# Altium schematic symbol library WR-WTB_2.50mm.SchLib: 24 symbols
Pins are listed as number, name and electrical type; pins without a type are passive.

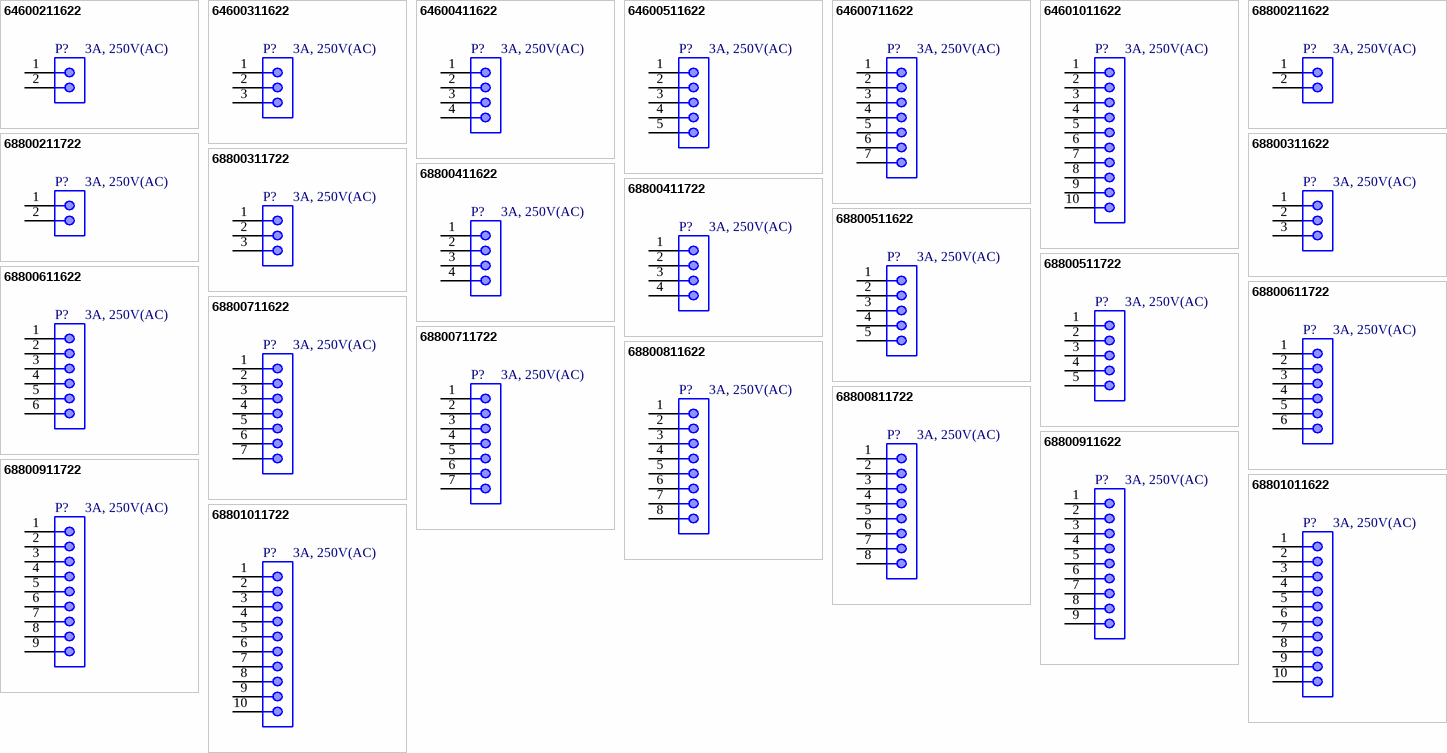
[diagram p0: symbols 64600211622 to 68801011722]

## 64600211622
designator P?, comment 3A, 250V(AC)
WR-WTB Male Vertical Shrouded Header, pitch 2.5mm, 2p; Manufacturer: Wurth Elektronik; Manufacturer Part Number: 64600211622; Pin Number: 2; Contact Resistance: 20mOhm; Withstanding Voltage: 1000VAC; Working Voltage: 250VAC; ComponentLink1Description: Datasheet; ComponentLink1URL: https://www.we-online.com/catalog/datasheet/64600211622.pdf; Pitch: 2.5mm; Packaging: Bag; Gender: Male; Type: Vertical; Rated Current: 3A; Supplier 1 URL: https://www.mouser.vn/ProductDetail/Wurth-Elektronik/64600211622?qs=ulEaXIWI0c%2FQU0TwvpLVZw%3D%3D; Supplier 2 URL: N/A; Supplier 3 URL: N/A; Value: 3A, 250V(AC); LCSC Part #: N/A; Mount: THT; Operating Temperature Max: + 105 C; Operating Temperature Min: - 40 C; Package / Case: 2; Supplier 1: Mouser; Supplier 1 Part Number: 710-64600211622; Supplier 2: Digi-Key; Supplier 2 Part Number: N/A; Supplier 3: thegioiic; Supplier 3 Part Number: N/A
footprint 64600211622
pins: 1, 2

## 64600311622
designator P?, comment 3A, 250V(AC)
WR-WTB Male Vertical Shrouded Header, pitch 2.5mm, 3p; Manufacturer: Wurth Elektronik; Manufacturer Part Number: 64600311622; Pin Number: 3; Contact Resistance: 20mOhm; Withstanding Voltage: 1000VAC; Working Voltage: 250VAC; ComponentLink1Description: Datasheet; ComponentLink1URL: https://www.we-online.com/catalog/datasheet/64600311622.pdf; Pitch: 2.5mm; Packaging: Bag; Gender: Male; Type: Vertical; Rated Current: 3A; Supplier 1 URL: N/A; Supplier 2 URL: N/A; Supplier 3 URL: N/A; Value: 3A, 250V(AC); LCSC Part #: N/A; Mount: THT; Operating Temperature Max: + 105 C; Operating Temperature Min: - 40 C; Package / Case: 3; Supplier 1: Mouser; Supplier 1 Part Number: N/A; Supplier 2: Digi-Key; Supplier 2 Part Number: N/A; Supplier 3: thegioiic; Supplier 3 Part Number: N/A
footprint 64600311622
pins: 1, 2, 3

## 64600411622
designator P?, comment 3A, 250V(AC)
WR-WTB Male Vertical Shrouded Header, pitch 2.5mm, 4p; Manufacturer: Wurth Elektronik; Manufacturer Part Number: 64600411622; Pin Number: 4; Contact Resistance: 20mOhm; Withstanding Voltage: 1000VAC; Working Voltage: 250VAC; ComponentLink1Description: Datasheet; ComponentLink1URL: https://www.we-online.com/catalog/datasheet/64600411622.pdf; Pitch: 2.5mm; Packaging: Bag; Gender: Male; Type: Vertical; Rated Current: 3A; Supplier 1 URL: https://www.mouser.vn/ProductDetail/Wurth-Elektronik/64600411622?qs=ulEaXIWI0c%2FOmlI5H1cDVQ%3D%3D; Supplier 2 URL: N/A; Supplier 3 URL: N/A; Value: 3A, 250V(AC); LCSC Part #: N/A; Mount: THT; Operating Temperature Max: + 105 C; Operating Temperature Min: - 40 C; Package / Case: 4; Supplier 1: Mouser; Supplier 1 Part Number: 710-64600411622; Supplier 2: Digi-Key; Supplier 2 Part Number: N/A; Supplier 3: thegioiic; Supplier 3 Part Number: N/A
footprint 64600411622
pins: 1, 2, 3, 4

## 64600511622
designator P?, comment 3A, 250V(AC)
WR-WTB Male Vertical Shrouded Header, pitch 2.5mm, 5p; Manufacturer: Wurth Elektronik; Manufacturer Part Number: 64600511622; Pin Number: 5; Contact Resistance: 20mOhm; Withstanding Voltage: 1000VAC; Working Voltage: 250VAC; ComponentLink1Description: Datasheet; ComponentLink1URL: https://www.we-online.com/catalog/datasheet/64600511622.pdf; Pitch: 2.5mm; Packaging: Bag; Gender: Male; Type: Vertical; Rated Current: 3A; Supplier 1 URL: N/A; Supplier 2 URL: N/A; Supplier 3 URL: N/A; Value: 3A, 250V(AC); LCSC Part #: N/A; Mount: THT; Operating Temperature Max: + 105 C; Operating Temperature Min: - 40 C; Package / Case: 5; Supplier 1: Mouser; Supplier 1 Part Number: N/A; Supplier 2: Digi-Key; Supplier 2 Part Number: N/A; Supplier 3: thegioiic; Supplier 3 Part Number: N/A
footprint 64600511622
pins: 1, 2, 3, 4, 5

## 64600711622
designator P?, comment 3A, 250V(AC)
WR-WTB Male Vertical Shrouded Header, pitch 2.5mm, 7p; Manufacturer: Wurth Elektronik; Manufacturer Part Number: 64600711622; Pin Number: 7; Contact Resistance: 20mOhm; Withstanding Voltage: 1000VAC; Working Voltage: 250VAC; ComponentLink1Description: Datasheet; ComponentLink1URL: https://www.we-online.com/catalog/datasheet/64600711622.pdf; Pitch: 2.5mm; Packaging: Bag; Gender: Male; Type: Vertical; Rated Current: 3A; Supplier 1 URL: https://www.mouser.vn/ProductDetail/Wurth-Elektronik/64600711622?qs=ylEgnKlAG2aCoZ%2FuUXn57g%3D%3D; Supplier 2 URL: N/A; Supplier 3 URL: N/A; Value: 3A, 250V(AC); LCSC Part #: N/A; Mount: THT; Operating Temperature Max: + 105 C; Operating Temperature Min: - 40 C; Package / Case: 7; Supplier 1: Mouser; Supplier 1 Part Number: 710-64600711622; Supplier 2: Digi-Key; Supplier 2 Part Number: N/A; Supplier 3: thegioiic; Supplier 3 Part Number: N/A
footprint 64600711622
pins: 1, 2, 3, 4, 5, 6, 7

## 64601011622
designator P?, comment 3A, 250V(AC)
WR-WTB Male Vertical Shrouded Header, pitch 2.5mm, 10p; Manufacturer: Wurth Elektronik; Manufacturer Part Number: 64601011622; Pin Number: 10; Contact Resistance: 20mOhm; Withstanding Voltage: 1000VAC; Working Voltage: 250VAC; ComponentLink1Description: Datasheet; ComponentLink1URL: https://www.we-online.com/catalog/datasheet/64601011622.pdf; Pitch: 2.5mm; Packaging: Bag; Gender: Male; Type: Vertical; Rated Current: 3A; Supplier 1 URL: N/A; Supplier 2 URL: N/A; Supplier 3 URL: N/A; Value: 3A, 250V(AC); LCSC Part #: N/A; Mount: THT; Operating Temperature Max: + 105 C; Operating Temperature Min: - 40 C; Package / Case: 10; Supplier 1: Mouser; Supplier 1 Part Number: N/A; Supplier 2: Digi-Key; Supplier 2 Part Number: N/A; Supplier 3: thegioiic; Supplier 3 Part Number: N/A
footprint 64601011622
pins: 1, 2, 3, 4, 5, 6, 7, 8, 9, 10

## 68800211622
designator P?, comment 3A, 250V(AC)
WR-WTB “J” Type THT Vertical Male Shrouded Header, pitch 2.5mm, 2p; Manufacturer: Wurth Elektronik; Manufacturer Part Number: 68800211622; Pin Number: 2; Contact Resistance: 20mOhm; Withstanding Voltage: 800VAC; Working Voltage: 250VAC; ComponentLink1Description: Datasheet; ComponentLink1URL: https://www.we-online.com/catalog/datasheet/68800211622.pdf; Pitch: 2.5mm; Packaging: Bag; Gender: Male; Type: Vertical; Rated Current: 3A; Supplier 1 URL: https://www.mouser.vn/ProductDetail/Wurth-Elektronik/68800211622?qs=W0yvOO0ixfFEaDSIrO93qQ%3D%3D; Supplier 2 URL: N/A; Supplier 3 URL: N/A; Value: 3A, 250V(AC); LCSC Part #: N/A; Mount: THT; Operating Temperature Max: + 85 C; Operating Temperature Min: - 25 C; Package / Case: 2; Supplier 1: Mouser; Supplier 1 Part Number: 710-68800211622; Supplier 2: Digi-Key; Supplier 2 Part Number: N/A; Supplier 3: thegioiic; Supplier 3 Part Number: N/A
footprint 68800211622
pins: 1, 2

## 68800211722
designator P?, comment 3A, 250V(AC)
WR-WTB “J” Type THT Male Horizontal Shrouded Header, pitch 2.5mm, 2p; Manufacturer: Wurth Elektronik; Manufacturer Part Number: 68800211722; Pin Number: 2; Contact Resistance: 20mOhm; Withstanding Voltage: 800VAC; Working Voltage: 250VAC; ComponentLink1Description: Datasheet; ComponentLink1URL: https://www.we-online.com/catalog/datasheet/68800211722.pdf; Pitch: 2.5mm; Packaging: Bag; Gender: Male; Type: Horizontal; Rated Current: 3A; Supplier 1 URL: N/A; Supplier 2 URL: N/A; Supplier 3 URL: N/A; Value: 3A, 250V(AC); LCSC Part #: N/A; Mount: THT; Operating Temperature Max: + 85 C; Operating Temperature Min: - 25 C; Package / Case: 2; Supplier 1: Mouser; Supplier 1 Part Number: N/A; Supplier 2: Digi-Key; Supplier 2 Part Number: N/A; Supplier 3: thegioiic; Supplier 3 Part Number: N/A
footprint 68800211722
pins: 1, 2

## 68800311622
designator P?, comment 3A, 250V(AC)
WR-WTB “J” Type THT Vertical Male Shrouded Header, pitch 2.5mm, 3p; Manufacturer: Wurth Elektronik; Manufacturer Part Number: 68800311622; Pin Number: 3; Contact Resistance: 20mOhm; Withstanding Voltage: 800VAC; Working Voltage: 250VAC; ComponentLink1Description: Datasheet; ComponentLink1URL: https://www.we-online.com/catalog/datasheet/68800311622.pdf; Pitch: 2.5mm; Packaging: Bag; Gender: Male; Type: Vertical; Rated Current: 3A; Supplier 1 URL: N/A; Supplier 2 URL: N/A; Supplier 3 URL: N/A; Value: 3A, 250V(AC); LCSC Part #: N/A; Mount: THT; Operating Temperature Max: + 85 C; Operating Temperature Min: - 25 C; Package / Case: 3; Supplier 1: Mouser; Supplier 1 Part Number: N/A; Supplier 2: Digi-Key; Supplier 2 Part Number: N/A; Supplier 3: thegioiic; Supplier 3 Part Number: N/A
footprint 68800311622
pins: 1, 2, 3

## 68800311722
designator P?, comment 3A, 250V(AC)
WR-WTB “J” Type THT Male Horizontal Shrouded Header, pitch 2.5mm, 3p; Manufacturer: Wurth Elektronik; Manufacturer Part Number: 68800311722; Pin Number: 3; Contact Resistance: 20mOhm; Withstanding Voltage: 800VAC; Working Voltage: 250VAC; ComponentLink1Description: Datasheet; ComponentLink1URL: https://www.we-online.com/catalog/datasheet/68800311722.pdf; Pitch: 2.5mm; Packaging: Bag; Gender: Male; Type: Horizontal; Rated Current: 3A; Supplier 1 URL: N/A; Supplier 2 URL: N/A; Supplier 3 URL: N/A; Value: 3A, 250V(AC); LCSC Part #: N/A; Mount: THT; Operating Temperature Max: + 85 C; Operating Temperature Min: - 25 C; Package / Case: 3; Supplier 1: Mouser; Supplier 1 Part Number: N/A; Supplier 2: Digi-Key; Supplier 2 Part Number: N/A; Supplier 3: thegioiic; Supplier 3 Part Number: N/A
footprint 68800311722
pins: 1, 2, 3

## 68800411622
designator P?, comment 3A, 250V(AC)
WR-WTB “J” Type THT Vertical Male Shrouded Header, pitch 2.5mm, 4p; Manufacturer: Wurth Elektronik; Manufacturer Part Number: 68800411622; Pin Number: 4; Contact Resistance: 20mOhm; Withstanding Voltage: 800VAC; Working Voltage: 250VAC; ComponentLink1Description: Datasheet; ComponentLink1URL: https://www.we-online.com/catalog/datasheet/68800411622.pdf; Pitch: 2.5mm; Packaging: Bag; Gender: Male; Type: Vertical; Rated Current: 3A; Supplier 1 URL: N/A; Supplier 2 URL: N/A; Supplier 3 URL: N/A; Value: 3A, 250V(AC); LCSC Part #: N/A; Mount: THT; Operating Temperature Max: + 85 C; Operating Temperature Min: - 25 C; Package / Case: 4; Supplier 1: Mouser; Supplier 1 Part Number: N/A; Supplier 2: Digi-Key; Supplier 2 Part Number: N/A; Supplier 3: thegioiic; Supplier 3 Part Number: N/A
footprint 68800411622
pins: 1, 2, 3, 4

## 68800411722
designator P?, comment 3A, 250V(AC)
WR-WTB “J” Type THT Male Horizontal Shrouded Header, pitch 2.5mm, 4p; Manufacturer: Wurth Elektronik; Manufacturer Part Number: 68800411722; Pin Number: 4; Contact Resistance: 20mOhm; Withstanding Voltage: 800VAC; Working Voltage: 250VAC; ComponentLink1Description: Datasheet; ComponentLink1URL: https://www.we-online.com/catalog/datasheet/68800411722.pdf; Pitch: 2.5mm; Packaging: Bag; Gender: Male; Type: Horizontal; Rated Current: 3A; Supplier 1 URL: N/A; Supplier 2 URL: N/A; Supplier 3 URL: N/A; Value: 3A, 250V(AC); LCSC Part #: N/A; Mount: THT; Operating Temperature Max: + 85 C; Operating Temperature Min: - 25 C; Package / Case: 4; Supplier 1: Mouser; Supplier 1 Part Number: N/A; Supplier 2: Digi-Key; Supplier 2 Part Number: N/A; Supplier 3: thegioiic; Supplier 3 Part Number: N/A
footprint 68800411722
pins: 1, 2, 3, 4

## 68800511622
designator P?, comment 3A, 250V(AC)
WR-WTB “J” Type THT Vertical Male Shrouded Header, pitch 2.5mm, 5p; Manufacturer: Wurth Elektronik; Manufacturer Part Number: 68800511622; Pin Number: 5; Contact Resistance: 20mOhm; Withstanding Voltage: 800VAC; Working Voltage: 250VAC; ComponentLink1Description: Datasheet; ComponentLink1URL: https://www.we-online.com/catalog/datasheet/68800511622.pdf; Pitch: 2.5mm; Packaging: Bag; Gender: Male; Type: Vertical; Rated Current: 3A; Supplier 1 URL: N/A; Supplier 2 URL: N/A; Supplier 3 URL: N/A; Value: 3A, 250V(AC); LCSC Part #: N/A; Mount: THT; Operating Temperature Max: + 85 C; Operating Temperature Min: - 25 C; Package / Case: 5; Supplier 1: Mouser; Supplier 1 Part Number: N/A; Supplier 2: Digi-Key; Supplier 2 Part Number: N/A; Supplier 3: thegioiic; Supplier 3 Part Number: N/A
footprint 68800511622
pins: 1, 2, 3, 4, 5

## 68800511722
designator P?, comment 3A, 250V(AC)
WR-WTB “J” Type THT Male Horizontal Shrouded Header, pitch 2.5mm, 5p; Manufacturer: Wurth Elektronik; Manufacturer Part Number: 68800511722; Pin Number: 5; Contact Resistance: 20mOhm; Withstanding Voltage: 800VAC; Working Voltage: 250VAC; ComponentLink1Description: Datasheet; ComponentLink1URL: https://www.we-online.com/catalog/datasheet/68800511722.pdf; Pitch: 2.5mm; Packaging: Bag; Gender: Male; Type: Horizontal; Rated Current: 3A; Supplier 1 URL: N/A; Supplier 2 URL: N/A; Supplier 3 URL: N/A; Value: 3A, 250V(AC); LCSC Part #: N/A; Mount: THT; Operating Temperature Max: + 85 C; Operating Temperature Min: - 25 C; Package / Case: 5; Supplier 1: Mouser; Supplier 1 Part Number: N/A; Supplier 2: Digi-Key; Supplier 2 Part Number: N/A; Supplier 3: thegioiic; Supplier 3 Part Number: N/A
footprint 68800511722
pins: 1, 2, 3, 4, 5

## 68800611622
designator P?, comment 3A, 250V(AC)
WR-WTB “J” Type THT Vertical Male Shrouded Header, pitch 2.5mm, 6p; Manufacturer: Wurth Elektronik; Manufacturer Part Number: 68800611622; Pin Number: 6; Contact Resistance: 20mOhm; Withstanding Voltage: 800VAC; Working Voltage: 250VAC; ComponentLink1Description: Datasheet; ComponentLink1URL: https://www.we-online.com/catalog/datasheet/68800611622.pdf; Pitch: 2.5mm; Packaging: Bag; Gender: Male; Type: Vertical; Rated Current: 3A; Supplier 1 URL: N/A; Supplier 2 URL: N/A; Supplier 3 URL: N/A; Value: 3A, 250V(AC); LCSC Part #: N/A; Mount: THT; Operating Temperature Max: + 85 C; Operating Temperature Min: - 25 C; Package / Case: 6; Supplier 1: Mouser; Supplier 1 Part Number: N/A; Supplier 2: Digi-Key; Supplier 2 Part Number: N/A; Supplier 3: thegioiic; Supplier 3 Part Number: N/A
footprint 68800611622
pins: 1, 2, 3, 4, 5, 6

## 68800611722
designator P?, comment 3A, 250V(AC)
WR-WTB “J” Type THT Male Horizontal Shrouded Header, pitch 2.5mm, 6p; Manufacturer: Wurth Elektronik; Manufacturer Part Number: 68800611722; Pin Number: 6; Contact Resistance: 20mOhm; Withstanding Voltage: 800VAC; Working Voltage: 250VAC; ComponentLink1Description: Datasheet; ComponentLink1URL: https://www.we-online.com/catalog/datasheet/68800611722.pdf; Pitch: 2.5mm; Packaging: Bag; Gender: Male; Type: Horizontal; Rated Current: 3A; Supplier 1 URL: N/A; Supplier 2 URL: N/A; Supplier 3 URL: N/A; Value: 3A, 250V(AC); LCSC Part #: N/A; Mount: THT; Operating Temperature Max: + 85 C; Operating Temperature Min: - 25 C; Package / Case: 6; Supplier 1: Mouser; Supplier 1 Part Number: N/A; Supplier 2: Digi-Key; Supplier 2 Part Number: N/A; Supplier 3: thegioiic; Supplier 3 Part Number: N/A
footprint 68800611722
pins: 1, 2, 3, 4, 5, 6

## 68800711622
designator P?, comment 3A, 250V(AC)
WR-WTB “J” Type THT Vertical Male Shrouded Header, pitch 2.5mm, 7p; Manufacturer: Wurth Elektronik; Manufacturer Part Number: 68800711622; Pin Number: 7; Contact Resistance: 20mOhm; Withstanding Voltage: 800VAC; Working Voltage: 250VAC; ComponentLink1Description: Datasheet; ComponentLink1URL: https://www.we-online.com/catalog/datasheet/68800711622.pdf; Pitch: 2.5mm; Packaging: Bag; Gender: Male; Type: Vertical; Rated Current: 3A; Supplier 1 URL: https://www.mouser.vn/ProductDetail/Wurth-Elektronik/68800711622?qs=3RJ0PdSuLVnWMCM6M3V0SA%3D%3D; Supplier 2 URL: N/A; Supplier 3 URL: N/A; Value: 3A, 250V(AC); LCSC Part #: N/A; Mount: THT; Operating Temperature Max: + 85 C; Operating Temperature Min: - 25 C; Package / Case: 7; Supplier 1: Mouser; Supplier 1 Part Number: 710-68800711622; Supplier 2: Digi-Key; Supplier 2 Part Number: N/A; Supplier 3: thegioiic; Supplier 3 Part Number: N/A
footprint 68800711622
pins: 1, 2, 3, 4, 5, 6, 7

## 68800711722
designator P?, comment 3A, 250V(AC)
WR-WTB “J” Type THT Male Horizontal Shrouded Header, pitch 2.5mm, 7p; Manufacturer: Wurth Elektronik; Manufacturer Part Number: 68800711722; Pin Number: 7; Contact Resistance: 20mOhm; Withstanding Voltage: 800VAC; Working Voltage: 250VAC; ComponentLink1Description: Datasheet; ComponentLink1URL: https://www.we-online.com/catalog/datasheet/68800711722.pdf; Pitch: 2.5mm; Packaging: Bag; Gender: Male; Type: Horizontal; Rated Current: 3A; Supplier 1 URL: N/A; Supplier 2 URL: N/A; Supplier 3 URL: N/A; Value: 3A, 250V(AC); LCSC Part #: N/A; Mount: THT; Operating Temperature Max: + 85 C; Operating Temperature Min: - 25 C; Package / Case: 7; Supplier 1: Mouser; Supplier 1 Part Number: N/A; Supplier 2: Digi-Key; Supplier 2 Part Number: N/A; Supplier 3: thegioiic; Supplier 3 Part Number: N/A
footprint 68800711722
pins: 1, 2, 3, 4, 5, 6, 7

## 68800811622
designator P?, comment 3A, 250V(AC)
WR-WTB “J” Type THT Vertical Male Shrouded Header, pitch 2.5mm, 8p; Manufacturer: Wurth Elektronik; Manufacturer Part Number: 68800811622; Pin Number: 8; Contact Resistance: 20mOhm; Withstanding Voltage: 800VAC; Working Voltage: 250VAC; ComponentLink1Description: Datasheet; ComponentLink1URL: https://www.we-online.com/catalog/datasheet/68800811622.pdf; Pitch: 2.5mm; Packaging: Bag; Gender: Male; Type: Vertical; Rated Current: 3A; Supplier 1 URL: N/A; Supplier 2 URL: N/A; Supplier 3 URL: N/A; Value: 3A, 250V(AC); LCSC Part #: N/A; Mount: THT; Operating Temperature Max: + 85 C; Operating Temperature Min: - 25 C; Package / Case: 8; Supplier 1: Mouser; Supplier 1 Part Number: N/A; Supplier 2: Digi-Key; Supplier 2 Part Number: N/A; Supplier 3: thegioiic; Supplier 3 Part Number: N/A
footprint 68800811622
pins: 1, 2, 3, 4, 5, 6, 7, 8

## 68800811722
designator P?, comment 3A, 250V(AC)
WR-WTB “J” Type THT Male Horizontal Shrouded Header, pitch 2.5mm, 8p; Manufacturer: Wurth Elektronik; Manufacturer Part Number: 68800811722; Pin Number: 8; Contact Resistance: 20mOhm; Withstanding Voltage: 800VAC; Working Voltage: 250VAC; ComponentLink1Description: Datasheet; ComponentLink1URL: https://www.we-online.com/catalog/datasheet/68800811722.pdf; Pitch: 2.5mm; Packaging: Bag; Gender: Male; Type: Horizontal; Rated Current: 3A; Supplier 1 URL: N/A; Supplier 2 URL: N/A; Supplier 3 URL: N/A; Value: 3A, 250V(AC); LCSC Part #: N/A; Mount: THT; Operating Temperature Max: + 85 C; Operating Temperature Min: - 25 C; Package / Case: 8; Supplier 1: Mouser; Supplier 1 Part Number: N/A; Supplier 2: Digi-Key; Supplier 2 Part Number: N/A; Supplier 3: thegioiic; Supplier 3 Part Number: N/A
footprint 68800811722
pins: 1, 2, 3, 4, 5, 6, 7, 8

## 68800911622
designator P?, comment 3A, 250V(AC)
WR-WTB “J” Type THT Vertical Male Shrouded Header, pitch 2.5mm, 9p; Manufacturer: Wurth Elektronik; Manufacturer Part Number: 68800911622; Pin Number: 9; Contact Resistance: 20mOhm; Withstanding Voltage: 800VAC; Working Voltage: 250VAC; ComponentLink1Description: Datasheet; ComponentLink1URL: https://www.we-online.com/catalog/datasheet/68800911622.pdf; Pitch: 2.5mm; Packaging: Bag; Gender: Male; Type: Vertical; Rated Current: 3A; Supplier 1 URL: N/A; Supplier 2 URL: N/A; Supplier 3 URL: N/A; Value: 3A, 250V(AC); LCSC Part #: N/A; Mount: THT; Operating Temperature Max: + 85 C; Operating Temperature Min: - 25 C; Package / Case: 9; Supplier 1: Mouser; Supplier 1 Part Number: N/A; Supplier 2: Digi-Key; Supplier 2 Part Number: N/A; Supplier 3: thegioiic; Supplier 3 Part Number: N/A
footprint 68800911622
pins: 1, 2, 3, 4, 5, 6, 7, 8, 9

## 68800911722
designator P?, comment 3A, 250V(AC)
WR-WTB “J” Type THT Male Horizontal Shrouded Header, pitch 2.5mm, 9p; Manufacturer: Wurth Elektronik; Manufacturer Part Number: 68800911722; Pin Number: 9; Contact Resistance: 20mOhm; Withstanding Voltage: 800VAC; Working Voltage: 250VAC; ComponentLink1Description: Datasheet; ComponentLink1URL: https://www.we-online.com/catalog/datasheet/68800911722.pdf; Pitch: 2.5mm; Packaging: Bag; Gender: Male; Type: Horizontal; Rated Current: 3A; Supplier 1 URL: N/A; Supplier 2 URL: N/A; Supplier 3 URL: N/A; Value: 3A, 250V(AC); LCSC Part #: N/A; Mount: THT; Operating Temperature Max: + 85 C; Operating Temperature Min: - 25 C; Package / Case: 9; Supplier 1: Mouser; Supplier 1 Part Number: N/A; Supplier 2: Digi-Key; Supplier 2 Part Number: N/A; Supplier 3: thegioiic; Supplier 3 Part Number: N/A
footprint 68800911722
pins: 1, 2, 3, 4, 5, 6, 7, 8, 9

## 68801011622
designator P?, comment 3A, 250V(AC)
WR-WTB “J” Type THT Vertical Male Shrouded Header, pitch 2.5mm, 10p; Manufacturer: Wurth Elektronik; Manufacturer Part Number: 68801011622; Pin Number: 10; Contact Resistance: 20mOhm; Withstanding Voltage: 800VAC; Working Voltage: 250VAC; ComponentLink1Description: Datasheet; ComponentLink1URL: https://www.we-online.com/catalog/datasheet/68801011622.pdf; Pitch: 2.5mm; Packaging: Bag; Gender: Male; Type: Vertical; Rated Current: 3A; Supplier 1 URL: N/A; Supplier 2 URL: N/A; Supplier 3 URL: N/A; Value: 3A, 250V(AC); LCSC Part #: N/A; Mount: THT; Operating Temperature Max: + 85 C; Operating Temperature Min: - 25 C; Package / Case: 10; Supplier 1: Mouser; Supplier 1 Part Number: N/A; Supplier 2: Digi-Key; Supplier 2 Part Number: N/A; Supplier 3: thegioiic; Supplier 3 Part Number: N/A
footprint 68801011622
pins: 1, 2, 3, 4, 5, 6, 7, 8, 9, 10

## 68801011722
designator P?, comment 3A, 250V(AC)
WR-WTB “J” Type THT Male Horizontal Shrouded Header, pitch 2.5mm, 10p; Manufacturer: Wurth Elektronik; Manufacturer Part Number: 68801011722; Pin Number: 10; Contact Resistance: 20mOhm; Withstanding Voltage: 800VAC; Working Voltage: 250VAC; ComponentLink1Description: Datasheet; ComponentLink1URL: https://www.we-online.com/catalog/datasheet/68801011722.pdf; Pitch: 2.5mm; Packaging: Bag; Gender: Male; Type: Horizontal; Rated Current: 3A; Supplier 1 URL: N/A; Supplier 2 URL: N/A; Supplier 3 URL: N/A; Value: 3A, 250V(AC); LCSC Part #: N/A; Mount: THT; Operating Temperature Max: + 85 C; Operating Temperature Min: - 25 C; Package / Case: 10; Supplier 1: Mouser; Supplier 1 Part Number: N/A; Supplier 2: Digi-Key; Supplier 2 Part Number: N/A; Supplier 3: thegioiic; Supplier 3 Part Number: N/A
footprint 68801011722
pins: 1, 2, 3, 4, 5, 6, 7, 8, 9, 10